# Altium schematic symbol library Quad_Op_Amp_2.SchLib: 1 symbol
Pins are listed as number, name and electrical type; pins without a type are passive.

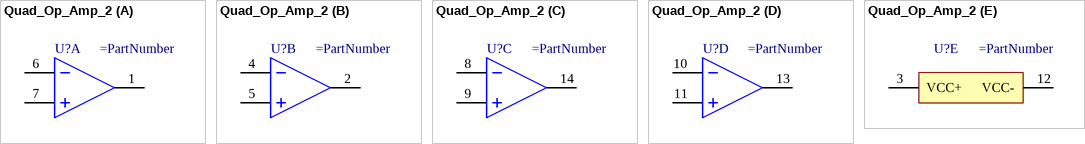
[diagram p0: symbol Quad_Op_Amp_2]

## Quad_Op_Amp_2
designator U?
part A pins: 1 OUT1, 6 IN1-, 7 IN1+
part B pins: 2 OUT2, 4 IN2-, 5 IN2+
part C pins: 8 IN3-, 9 IN3+, 14 OUT3
part D pins: 10 IN4-, 11 IN4+, 13 OUT4
part E pins: 3 VCC+, 12 VCC-